# Altium footprint library buzzer.PcbLib: 1 footprints
Each footprint in its own frame and in the unit in brackets; x right, y up, seen from the top. Pads: shape width x height; smd on the part's side, far side on the other; paste and mask are expansions set on the pad; w line width, h text height; cw(c..) or ccw(c..) is an arc to the next point about the centre after c.
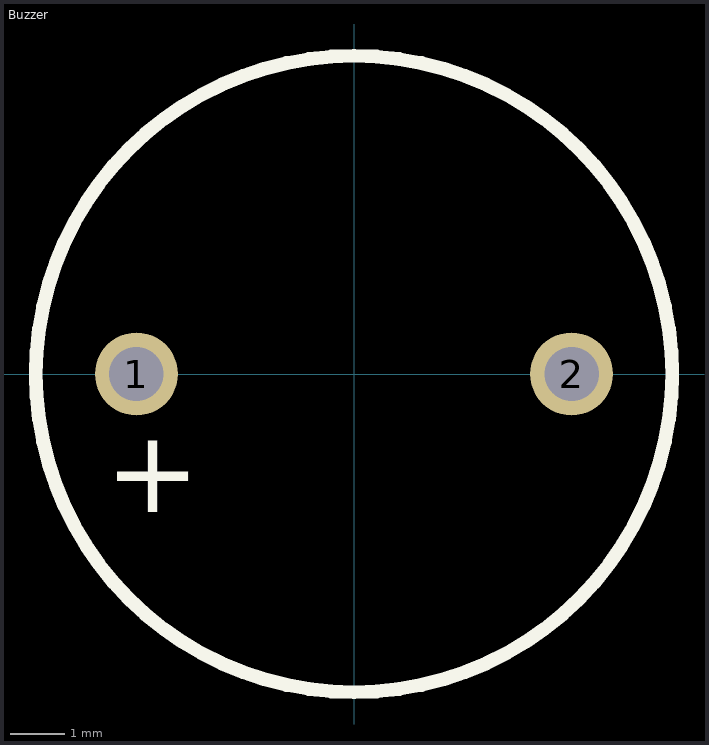
[diagram p0: the footprint, top view; thin cyan lines are the x and y axes]

## Buzzer [mil]
height 334.65
pads (2):
  round 60 hole 39.37: 1(-157.48,0) 2(157.48,0)
Top Overlay:
  circle w10: c0,0 r230.31
  text "+" at -180,-100 h60
3D body: height 314.96, standoff 0, extent -230.31,-230.31 230.31,230.31
3D body: height 157.48, standoff 0, extent -177.17,-19.68 -137.8,19.68
3D body: height 157.48, standoff 0, extent 137.8,-19.68 177.17,19.68